# EAGLE library part PIC16LF1826-I_SO (library PIC16LF1826-I_SO)
MCU Low power XLP with 32MHz Osc, 16 I/0 Source: Datasheet <https://componentsearchengine.com/Datasheets/1/PIC16LF1826-I_SO.pdf>
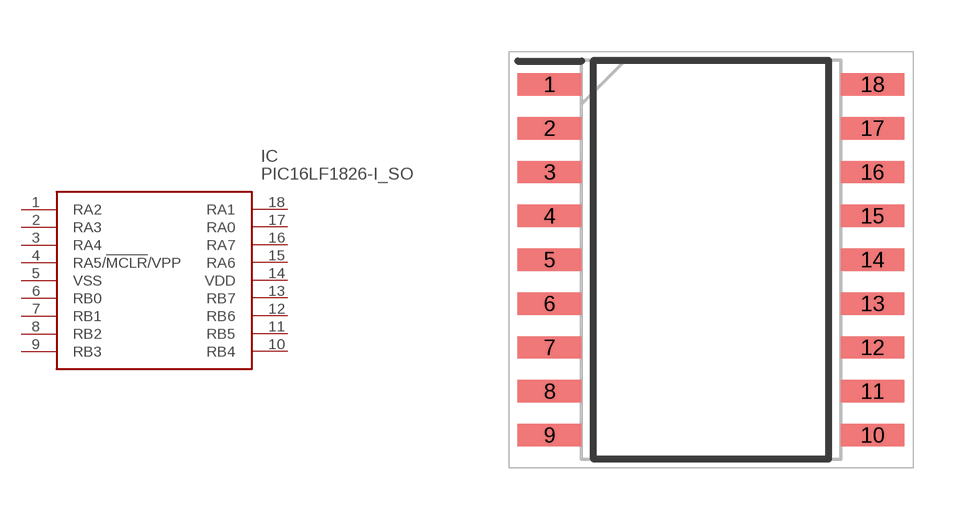
[diagram p0: symbol with the pads of SOIC127P1030X265-18N; footprint SOIC127P1030X265-18N]

Designator prefix IC

## PIC16LF1826-I_SO (Description: MCU Low power XLP with 32MHz Osc, 16 I/0; Height: 2.65mm; Manufacturer_Name: Microchip; Manufacturer_Part_Number: PIC16LF1826-I/SO; Mouser_Part_Number: 579-PIC16LF1826-I/SO; Mouser_Price-Stock: https://www.mouser.com/Search/Refine.aspx?Keyword=579-PIC16LF1826-I%2FSO)  [SOIC127P1030X265-18N]
1  RA2
2  RA3
3  RA4
4  RA5/!MCLR!/VPP
5  VSS  pwr
6  RB0
7  RB1
8  RB2
9  RB3
10  RB4
11  RB5
12  RB6
13  RB7
14  VDD  pwr
15  RA6
16  RA7
17  RA0
18  RA1

## Footprint SOIC127P1030X265-18N (pad centres in mm)
SO 18-Lead [SOIC]
smd 1.85 x 0.65: 1 -4.675,5.08; 2 -4.675,3.81; 3 -4.675,2.54; 4 -4.675,1.27; 5 -4.675,0; 6 -4.675,-1.27; 7 -4.675,-2.54; 8 -4.675,-3.81; 9 -4.675,-5.08; 10 4.675,-5.08; 11 4.675,-3.81; 12 4.675,-2.54; 13 4.675,-1.27; 14 4.675,0; 15 4.675,1.27; 16 4.675,2.54; 17 4.675,3.81; 18 4.675,5.08